# EAGLE library part CDCLVC1102 (library cdclvc11xx_10)
CDCLVC1102 3.3V and 2.5V LVCMOS High-Performance Clock Buffer - 1:2 Fan-out Source: http://www.ti.com/lit/ds/symlink/cdclvc1102.pdf
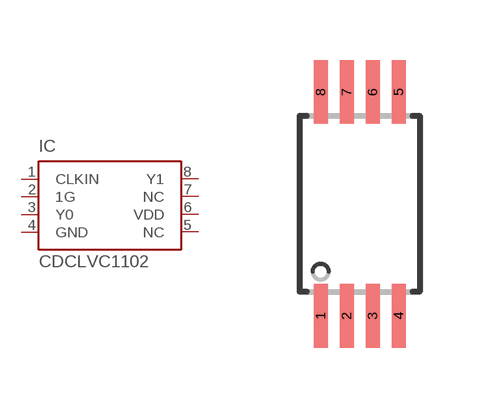
[diagram p0: symbol with the pads of TSSOP8; footprint TSSOP8]

Designator prefix IC

## CDCLVC1102PW (MF: Texas Instruments; MPN: CDCLVC1102; OC_FARNELL: 1829679; OC_NEWARK: 79R7906)  [TSSOP8]
1  CLKIN  in
2  1G  in
3  Y0  out
4  GND  pwr
5  NC  nc
6  VDD  pwr
7  NC  nc
8  Y1  out

## Footprint TSSOP8 (pad centres in mm)
TSSOP-8 Plastic Thin Srink Small Outline (PW) Source: http://www.ti.com/lit/ds/symlink/cdclvc1102.pdf
smd 0.35 x 1.6: 1 -0.975,-2.8; 2 -0.325,-2.8; 3 0.325,-2.8; 4 0.975,-2.8; 5 0.975,2.8; 6 0.325,2.8; 7 -0.325,2.8; 8 -0.975,2.8